# Altium footprint library BJT.PcbLib: 1 footprints
Each footprint in its own frame and in the unit in brackets; x right, y up, seen from the top. Pads: shape width x height; smd on the part's side, far side on the other; paste and mask are expansions set on the pad; w line width, h text height; cw(c..) or ccw(c..) is an arc to the next point about the centre after c.
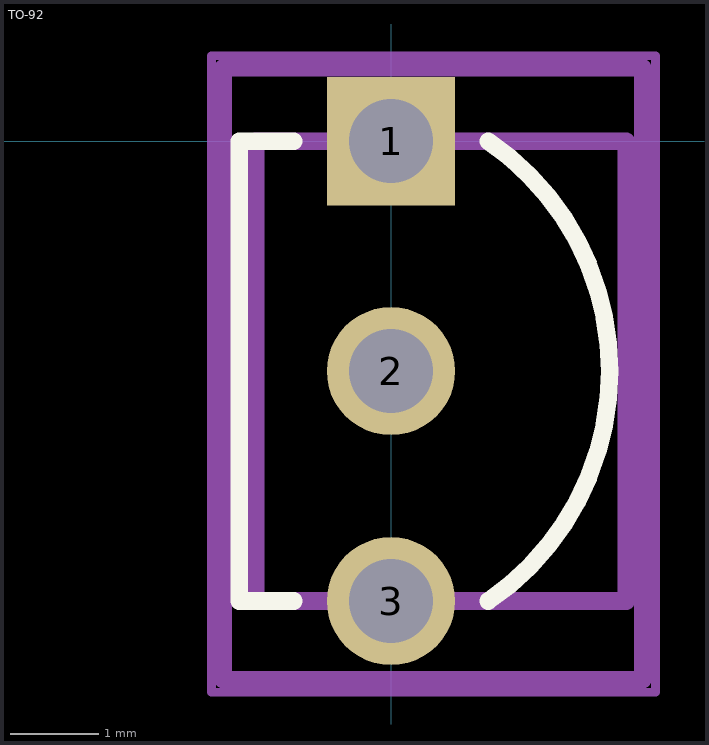
[diagram p0: the footprint, top view; thin cyan lines are the x and y axes]

## TO-92 [mm]
pads (3):
  rect 1.45x1.45 hole 0.95 paste-1000 mask+0: 1(0,0)
  round 1.45 hole 0.95 paste-1000 mask+0: 2(0,-2.6) 3(0,-5.2)
Top Overlay:
  lines w0.2: -1.1,-5.2 -1.715,-5.2 -1.715,0 -1.1,0 ; 1.1,-5.2 ccw(c-0.678,-2.6) 1.1,0
Top Assembly:
  lines w0.2: -1.895,-6.088 2.848,-6.088 2.848,0.83 -1.895,0.83 -1.895,-6.088
Top Component Center:
  lines w0.2: -0.5,-2.6 0.5,-2.6 ; 0,-3.1 0,-2.1
Top Component Outline:
  lines w0.2: -1.53,-5.2 2.66,-5.2 2.66,0 -1.53,0 -1.53,-5.2
Top Courtyard:
  lines w0.1: -2.03,-6.231 2.992,-6.231 2.992,0.965 -2.03,0.965 -2.03,-6.231
Top Designator:
  text ".Designator" at -0.508,5.018 h1.52
3D body "Trans_ON_Semiconductor_BC33740TA_eec.STEP": height 0.25, standoff 0, extent -1.815,-6.025 2.575,0.825